# EAGLE library part ARDUINO-PRO_MICRO-TRADITIONAL (library p.peter-ics)
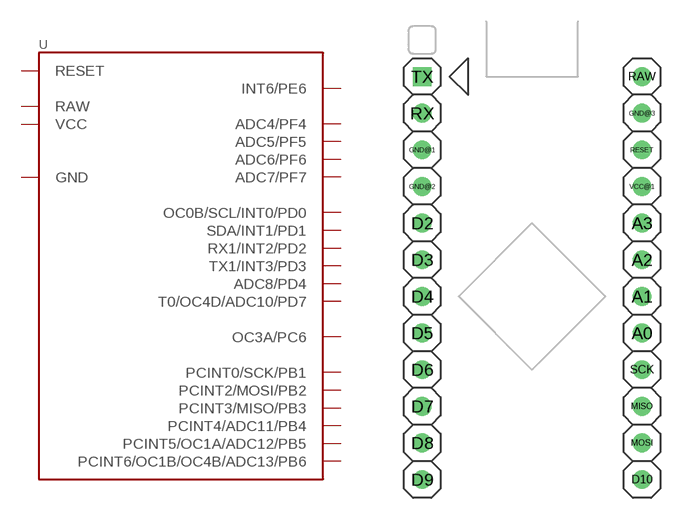
[diagram p15: symbol with the pads of ARDUINO-PRO_MICRO; footprint ARDUINO-PRO_MICRO]

Designator prefix -

## ARDUINO-PRO_MICRO-TRADITIONAL  [ARDUINO-PRO_MICRO]
A0  ADC7/PF7
A1  ADC6/PF6
A2  ADC5/PF5
A3  ADC4/PF4
D2  SDA/INT1/PD1
D3  OC0B/SCL/INT0/PD0
D4  ADC8/PD4
D5  OC3A/PC6
D6  T0/OC4D/ADC10/PD7
D7  INT6/PE6
D8  PCINT4/ADC11/PB4
D9  PCINT5/OC1A/ADC12/PB5
D10  PCINT6/OC1B/OC4B/ADC13/PB6
GND@1  GND
GND@2  GND
GND@3  GND
MISO  PCINT3/MISO/PB3
MOSI  PCINT2/MOSI/PB2
RAW  RAW
RESET  RESET
RX  RX1/INT2/PD2
SCK  PCINT0/SCK/PB1
TX  TX1/INT3/PD3
VCC@1  VCC

## Footprint ARDUINO-PRO_MICRO (pad centres in mm)
drill 0.8: A0 7.62,-5.08; A1 7.62,-2.54; A2 7.62,0; A3 7.62,2.54; D2 -7.62,2.54; D3 -7.62,0; D4 -7.62,-2.54; D5 -7.62,-5.08; D6 -7.62,-7.62; D7 -7.62,-10.16; D8 -7.62,-12.7; D9 -7.62,-15.24; D10 7.62,-15.24; GND@1 -7.62,7.62; GND@2 -7.62,5.08; GND@3 7.62,10.16; MISO 7.62,-10.16; MOSI 7.62,-12.7; RAW 7.62,12.7; RESET 7.62,7.62; RX -7.62,10.16; SCK 7.62,-7.62; VCC@1 7.62,5.08
drill 0.8 square: TX -7.62,12.7